# EAGLE library part CONNEC_1X09 (library rhoban)
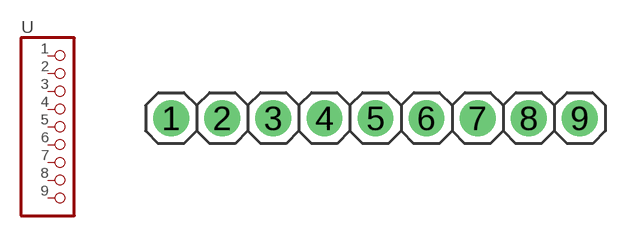
[diagram p8: symbol with the pads of CONNEC_1X09; footprint CONNEC_1X09]

Designator prefix -

## CONNEC_1X09  [CONNEC_1X09]
1  1  pas
2  2  pas
3  3  pas
4  4  pas
5  5  pas
6  6  pas
7  7  pas
8  8  pas
9  9  pas

## Footprint CONNEC_1X09 (pad centres in mm)
drill 1 pad 1.778: 1 -1.27,1.27; 2 1.27,1.27; 3 3.81,1.27; 4 6.35,1.27; 5 8.89,1.27; 6 11.43,1.27; 7 13.97,1.27; 8 16.51,1.27; 9 19.05,1.27